# EAGLE library part ESP32 (library maciver_robot_lib)
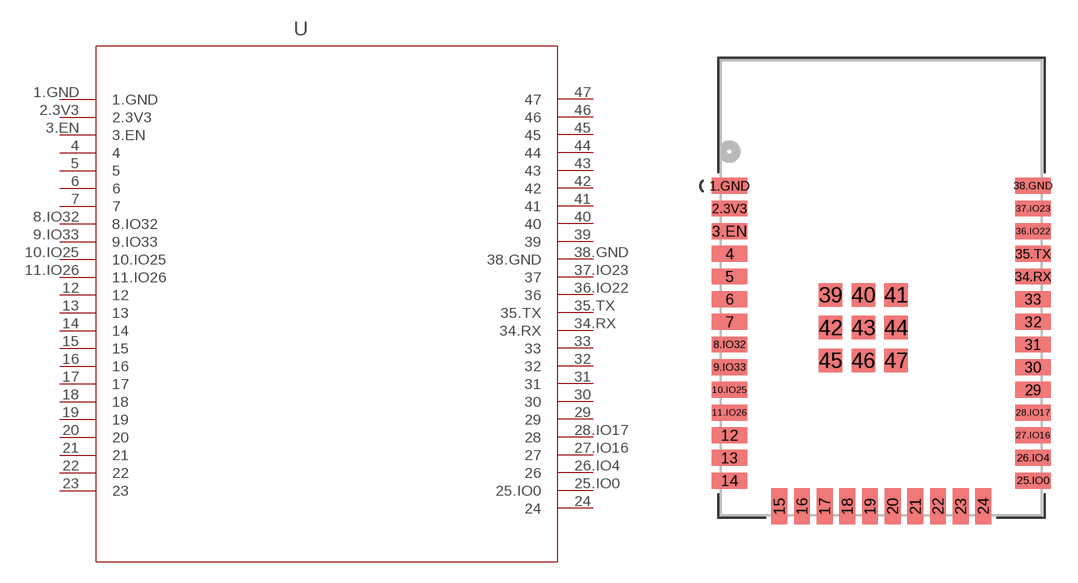
[diagram p0: symbol with the pads of ESP32; footprint ESP32]

Designator prefix U

## ESP32 (BUILT_BY: EMA_Kyle; COPYRIGHT: Copyright (C) 2018 Accelerated Designs. All rights reserved; DATASHEET: https://www.espressif.com/sites/default/files/documentation/esp32-wroom-32_datasheet_en.pdf; MANUFACTURER_PART_NUMBER: ESP32-WROOM-32 (8MB); SOURCELIBRARY: Add_to_database_2020-12-29; VENDOR: Espressif Systems)  [ESP32]
1.GND  1.GND  pas
2.3V3  2.3V3  pas
3.EN  3.EN  pas
4  4  pas
5  5  pas
6  6  pas
7  7  pas
8.IO32  8.IO32  pas
9.IO33  9.IO33  pas
10.IO25  10.IO25  pas
11.IO26  11.IO26  pas
12  12  pas
13  13  pas
14  14  pas
15  15  pas
16  16  pas
17  17  pas
18  18  pas
19  19  pas
20  20  pas
21  21  pas
22  22  pas
23  23  pas
24  24  pas
25.IO0  25.IO0  pas
26.IO4  26  pas
27.IO16  27  pas
28.IO17  28  pas
29  29  pas
30  30  pas
31  31  pas
32  32  pas
33  33  pas
34.RX  34.RX  pas
35.TX  35.TX  pas
36.IO22  36  pas
37.IO23  37  pas
38.GND  38.GND  pas
39  39  pas
40  40  pas
41  41  pas
42  42  pas
43  43  pas
44  44  pas
45  45  pas
46  46  pas
47  47  pas

## Footprint ESP32 (pad centres in mm)
smd 2.007 x 0.889: 1.GND -8.5,5.704; 2.3V3 -8.5,4.434; 3.EN -8.5,3.164; 4 -8.5,1.894; 5 -8.5,0.624; 6 -8.5,-0.646; 7 -8.5,-1.916; 8.IO32 -8.5,-3.186; 9.IO33 -8.5,-4.456; 10.IO25 -8.5,-5.726; 11.IO26 -8.5,-6.996; 12 -8.5,-8.266; 13 -8.5,-9.536; 14 -8.5,-10.806; 25.IO0 8.5,-10.806; 26.IO4 8.5,-9.536; 27.IO16 8.5,-8.266; 28.IO17 8.5,-6.996; 29 8.5,-5.726; 30 8.5,-4.456; 31 8.5,-3.186; 32 8.5,-1.916; 33 8.5,-0.646; 34.RX 8.5,0.624; 35.TX 8.5,1.894; 36.IO22 8.5,3.164; 37.IO23 8.5,4.434; 38.GND 8.5,5.704
smd 0.889 x 2.007: 15 -5.715,-12.248; 16 -4.445,-12.248; 17 -3.175,-12.248; 18 -1.905,-12.248; 19 -0.635,-12.248; 20 0.635,-12.248; 21 1.905,-12.248; 22 3.175,-12.248; 23 4.445,-12.248; 24 5.715,-12.248
smd 1.321 x 1.321: 39 -2.839,-0.405; 40 -1.004,-0.405; 41 0.831,-0.405; 42 -2.839,-2.24; 43 -1.004,-2.24; 44 0.831,-2.24; 45 -2.839,-4.075; 46 -1.004,-4.075; 47 0.831,-4.075